# Altium schematic symbol library LTC6079.SchLib: 1 symbol
Pins are listed as number, name and electrical type; pins without a type are passive.

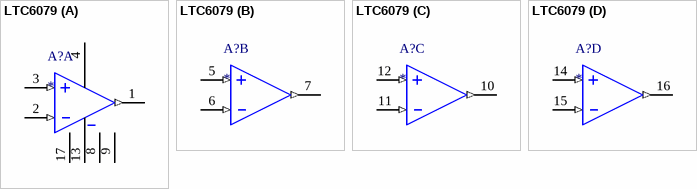
[diagram p0: symbol LTC6079]

## LTC6079
designator A?
Quad Micropower Precision RRIO CMOS Op-Amp
part A pins: 1 OUTA (out), 2 INA_NEG (in), 3 INA_POS (in), 4 VDD (power), 8 NC, 9 NC, 13 VSS (power), 17 PAD (power)
part B pins: 5 INB_POS (in), 6 INB_NEG (in), 7 OUTB (out)
part C pins: 10 OUTC (out), 11 INC_NEG (in), 12 INC_POS (in)
part D pins: 14 IND_POS (in), 15 IND_NEG (in), 16 OUTD (out)